# EAGLE library part LCD-16X2 (library MRDT-2015-BMS)
Standard text-only 16x2 parallel input LCD Referenced from: https://www.sparkfun.com/products/709
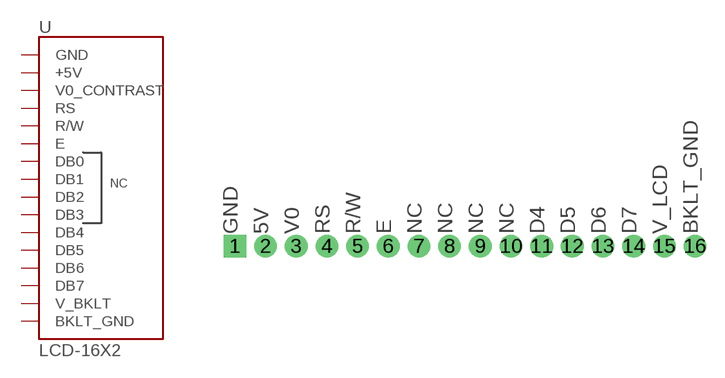
[diagram p0: symbol with the pads of LCD-SIMPLIFIED; footprint LCD-SIMPLIFIED]

Designator prefix U

## LCD-16X2"  [LCD-SIMPLIFIED]
1  GND  pwr
2  +5V  pwr
3  V0_CONTRAST
4  RS  in
5  R/W  in
6  E  in
7  DB0
8  DB1
9  DB2
10  DB3
11  DB4
12  DB5
13  DB6
14  DB7
15  V_BKLT  pwr
16  BKLT_GND  pwr

## Footprint LCD-SIMPLIFIED (pad centres in mm)
drill 1.016 pad 1.88 square: 1 -12.95,0.26
drill 1.016 pad 1.88: 2 -10.41,0.26; 3 -7.87,0.26; 4 -5.33,0.26; 5 -2.79,0.26; 6 -0.25,0.26; 7 2.29,0.26; 8 4.83,0.26; 9 7.37,0.26; 10 9.91,0.26; 11 12.45,0.26; 12 14.99,0.26; 13 17.53,0.26; 14 20.07,0.26; 15 22.61,0.26; 16 25.15,0.26